# EAGLE library part TTGO-ESP32-OLED-18650 (library BadgeParts)
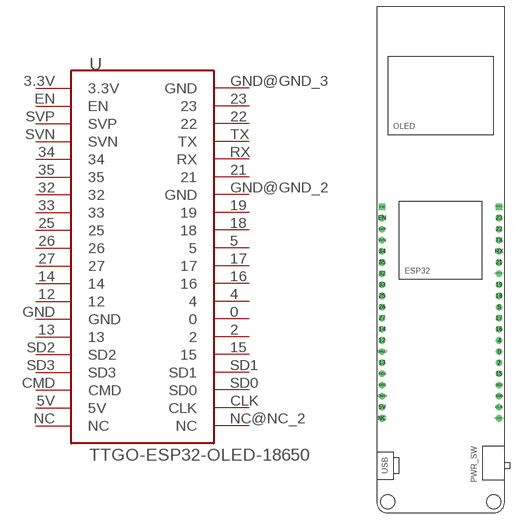
[diagram p1: symbol with the pads of TTGO-ESP32-OLED-18650; footprint TTGO-ESP32-OLED-18650]

Designator prefix -

## TTGO-ESP32-OLED-18650  [TTGO-ESP32-OLED-18650]
0  0
2  2
3.3V  3.3V
4  4
5  5
5V  5V
12  12
13  13
14  14
15  15
16  16
17  17
18  18
19  19
21  21
22  22
23  23
25  25
26  26
27  27
32  32
33  33
34  34
35  35
CLK  CLK
CMD  CMD
EN  EN
GND  GND
GND@GND_2  GND
GND@GND_3  GND
NC  NC
NC@NC_2  NC
RX  RX
SD0  SD0
SD1  SD1
SD2  SD2
SD3  SD3
SVN  SVN
SVP  SVP
TX  TX

## Footprint TTGO-ESP32-OLED-18650 (pad centres in mm)
drill 1: 0 26.67,16.51; 2 26.67,13.97; 4 26.67,19.05; 5 26.67,26.67; 5V 0,3.81; 12 0,19.05; 13 0,13.97; 14 0,21.59; 15 26.67,11.43; 16 26.67,21.59; 17 26.67,24.13; 18 26.67,29.21; 19 26.67,31.75; 21 26.67,36.83; 22 26.67,44.45; 23 26.67,46.99; 25 0,29.21; 26 0,26.67; 27 0,24.13; 32 0,34.29; 33 0,31.75; 34 0,39.37; 35 0,36.83; CLK 26.67,3.81; CMD 0,6.35; EN 0,46.99; GND 0,16.51; GND@GND_2 26.67,34.29; NC 0,1.27; NC@NC_2 26.67,1.27; RX 26.67,39.37; SD0 26.67,6.35; SD1 26.67,8.89; SD2 0,11.43; SD3 0,8.89; SVN 0,41.91; SVP 0,44.45; TX 26.67,41.91
drill 1 square: 3.3V 0,49.53; GND@GND_3 26.67,49.53
hole 3.175 at 1.27,-17.78
hole 3.175 at 25.4,-17.78